# EAGLE library part SS-53000-001 (library SamacSys_Parts)
HDMI, Displayport & DVI Connectors HDMI RA W/Out Flange Source: Datasheet <https://componentsearchengine.com/Datasheets/1/SS-53000-001.pdf>
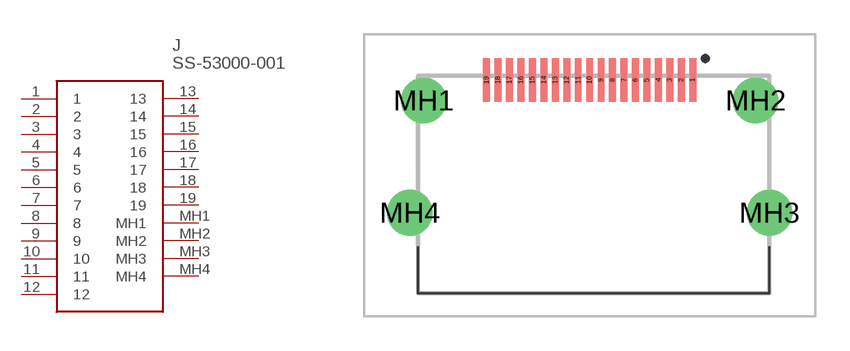
[diagram p18: symbol with the pads of SS53000001; footprint SS53000001]

Designator prefix J

## SS-53000-001 (DESCRIPTION: HDMI, Displayport & DVI Connectors HDMI RA W/Out Flange; HEIGHT: 6.18mm; MANUFACTURER_NAME: Stewart Connector; MANUFACTURER_PART_NUMBER: SS-53000-001; MOUSER_PART_NUMBER: 530-SS-53000-001; MOUSER_PRICE-STOCK: https://www.mouser.co.uk/ProductDetail/Stewart-Connector-Bel/SS-53000-001/?qs=BJlw7L4Cy79s8HuVQy18%252BQ%3D%3D)  [SS53000001]
1  1
2  2
3  3
4  4
5  5
6  6
7  7
8  8
9  9
10  10
11  11
12  12
13  13
14  14
15  15
16  16
17  17
18  18
19  19
MH1  MH1
MH2  MH2
MH3  MH3
MH4  MH4

## Footprint SS53000001 (pad centres in mm)
SS-53000-001-1
smd 0.3 x 1.9: 1 4.5,4.165; 2 4,4.165; 3 3.5,4.165; 4 3,4.165; 5 2.5,4.165; 6 2,4.165; 7 1.5,4.165; 8 1,4.165; 9 0.5,4.165; 10 0,4.165; 11 -0.5,4.165; 12 -1,4.165; 13 -1.5,4.165; 14 -2,4.165; 15 -2.5,4.165; 16 -3,4.165; 17 -3.5,4.165; 18 -4,4.165; 19 -4.5,4.165
drill 1.33 pad 1.995: MH1 -7.25,3.265; MH2 7.25,3.265; MH3 7.85,-1.635; MH4 -7.85,-1.635